# EAGLE library part LMR33630CDDAR (library hollx047_11)
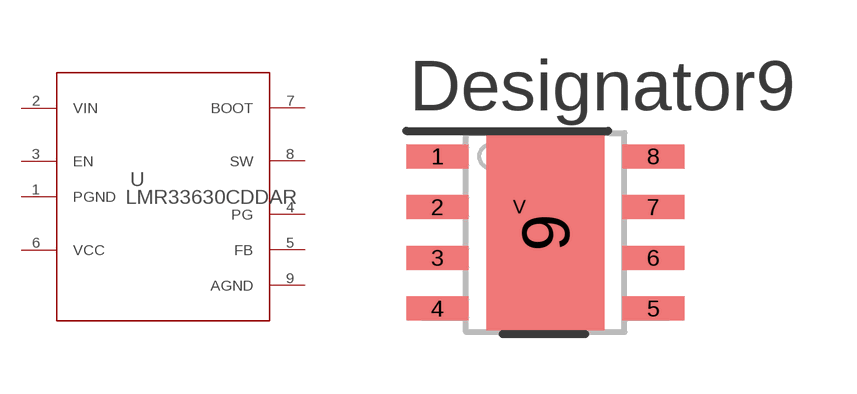
[diagram p0: symbol with the pads of DDA0008J; footprint DDA0008J]

Designator prefix U

## LMR33630CDDAR (MANUFACTURER: Texas Instruments; PARTNUMBER: LMR33630CDDAR; REFDES: RefDes; TYPE: TYPE; VALUE: Value)  [DDA0008J]
1  PGND  pwr
2  VIN  pwr
3  EN  in
4  PG  oc
5  FB  in
6  VCC  pwr
7  BOOT  pwr
8  SW  pwr
9  AGND  pas

## Footprint DDA0008J (pad centres in mm)
smd 1.55 x 0.6: 1 -2.7,1.905; 2 -2.7,0.635; 3 -2.7,-0.635; 4 -2.7,-1.905; 5 2.7,-1.905; 6 2.7,-0.635; 7 2.7,0.635; 8 2.7,1.905
smd 2.95 x 4.9: 9 0,0
smd 0.5 x 0.5: V -0.65,0.65